# Altium integrated library TI Data Converters Digital to Analog Converter.IntLib: 1533 symbols (part 67 of 99)
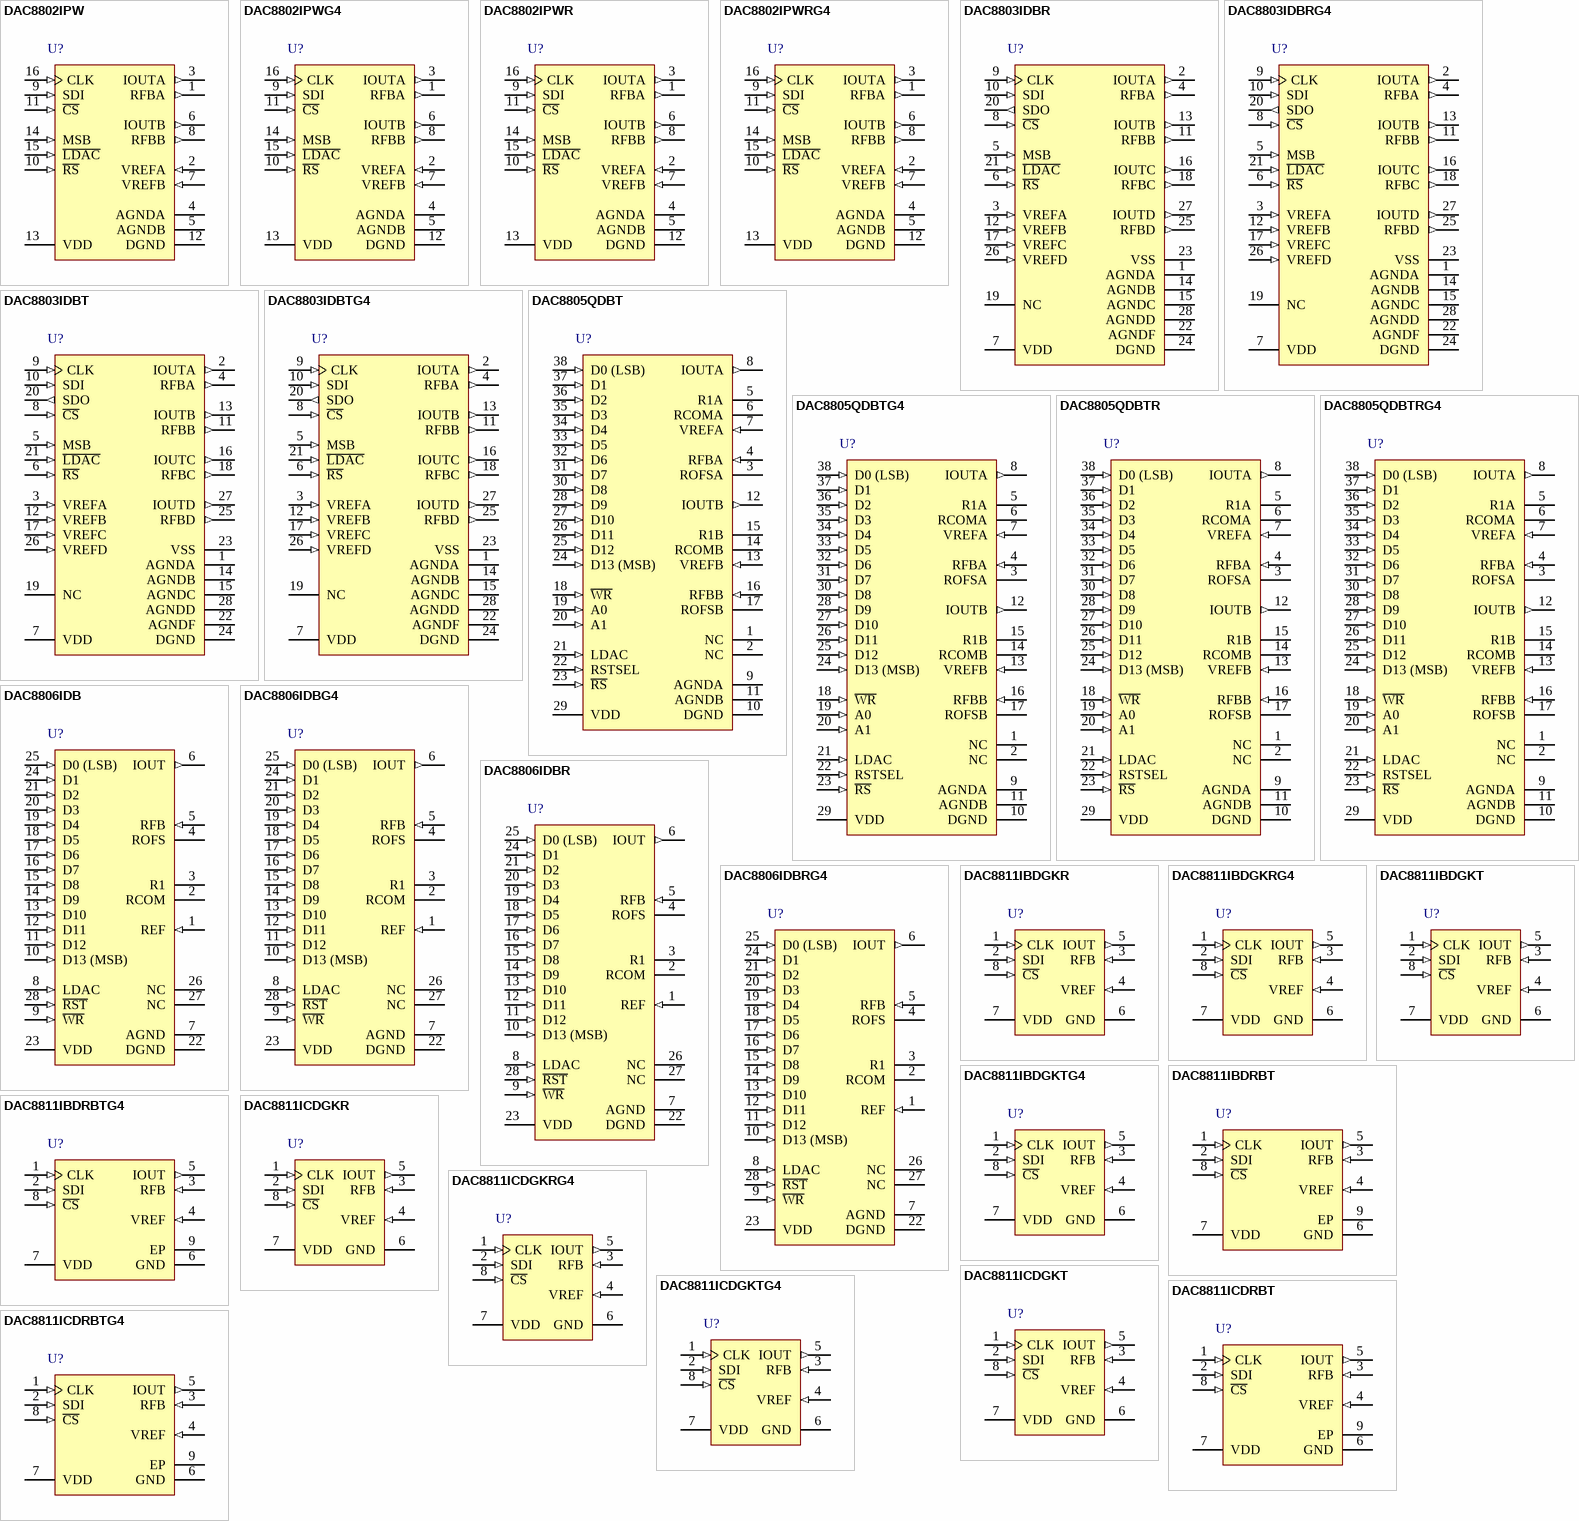
[diagram p139: symbols DAC8802IPW to DAC8811ICDRBTG4]

## DAC8803IDBRG4
designator U?
14-Bit, Quad Channel, Serial Interface, Multiplying DAC, -40 to 85 degC, 28-pin SOP (DB28), Green (RoHS & no Sb/Br); Manufacturer: Texas Instruments; PartNumber: DAC8803IDBRG4; DAC Channels: 4; DNL(Max)(+/-LSB): 1; Interface: Serial SPI; Resolution(Bits): 14; Settling Time(us): 0.5; SubFamily: Precision DAC (=<10MSPS); DatasheetVersion: SBAS340C; PackageVersion: 4040065/E, 12/2001; PackageReference: DB28; PackageDescription: 28-Pin Plastic Small Outline, Body 10.2 X 5.3 mm, Pitch 0.65 mm; Supplier 1: Digi-Key; Supplier Part Number 1: DAC8803IDBRG4-ND; Supplier 2: Mouser; Supplier Part Number 2: 595-DAC8803IDBRG4; Eco-Plan: Green (RoHS & no Sb/Br); INL(Max)(+/-LSB): 1; Mounting Technology: Surface Mount; Code_JEDEC: MO-150; ComponentLink1Description: Manufacturer URL; ComponentLink1URL: http://www.ti.com/; ComponentLink2Description: Datasheet; ComponentLink2URL: http://www.ti.com/general/docs/lit/getliterature.tsp?genericPartNumber=DAC8803&fileType=pdf; ComponentLink3Description: Package Specification; ComponentLink3URL: http://www.ti.com/lit/ml/msso002e/msso002e.pdf
footprint TI-DB28_N (SOP, 28-Leads, Body 10.2x5.3mm, Pitch 0.65mm, IPC Medium Density)
footprint TI-DB28_L (SOP, 28-Leads, Body 10.2x5.3mm, Pitch 0.65mm, IPC High Density)
footprint TI-DB28_M (SOP, 28-Leads, Body 10.2x5.3mm, Pitch 0.65mm, IPC Low Density)
pins: 1 AGNDA (power) "DAC A Analog ground.", 2 IOUTA (out) "DAC A Current output.", 3 VREFA (in) "DAC A Reference voltage input terminal. Establishes DAC full-scale output voltage. Can be tied to VDD.", 4 RFBA (out) "Establish voltage output for DAC A by connecting to external amplifier output.", 5 MSB (in) "MSB Bit set during a reset pulse (RS) or at system power-on if tied to ground or VDD.", 6 ~{RS} (in) "Reset pin, active low. Input register and DAC registers are set to all zeros or half-scale code (8000h) determined by the voltage on the MSB pin. Register data = 8000h when MSB = 1.", 7 VDD (power) "Positive power-supply input. Specified range of operation +2.7 V to +5.5 V.", 8 ~{CS} (in) "Chip select; active low input. Disables shift register loading when high. Transfers shift register data to input register when C\S\/L\D\A\C\ goes high. Does not affect LDAC operation.", 9 CLK (in) "Clock input; positive edge triggered clocks data into shift register", 10 SDI (in) "Serial data input; data loads directly into the shift register.", 11 RFBB (out) "Establish voltage output for DAC B by connecting to external amplifier output.", 12 VREFB (in) "DAC B Reference voltage input terminal. Establishes DAC full-scale output voltage. Can be tied to VDD.", 13 IOUTB (out) "DAC B Current output.", 14 AGNDB (power) "DAC B Analog ground.", 15 AGNDC (power) "DAC C Analog ground.", 16 IOUTC (out) "DAC C Current output.", 17 VREFC (in) "DAC C Reference voltage input terminal. Establishes DAC full-scale output voltage. Can be tied to VDD.", 18 RFBC (out) "Establish voltage output for DAC C by connecting to external amplifier output.", 19 NC "Not connected; leave floating.", 20 SDO (out) "Serial data output; input data loads directly into shift register. Data appears at SDO, 19 clock pulses after input at the SDI pin.", 21 ~{LDAC} (in) "Load DAC register strobe; level sensitive active low. Transfers all input register data to the DAC registers. Asynchronous active low input. See Table 1 for operation.", 22 AGNDF (power) "High current analog force ground.", 23 VSS "No internal connection.", 24 DGND (power) "Digital ground.", 25 RFBD (out) "Establish voltage output for DAC D by connecting to external amplifier output.", 26 VREFD (in) "DAC D Reference voltage input terminal. Establishes DAC full-scale output voltage. Can be tied to VDD.", 27 IOUTD (out) "DAC D Current output.", 28 AGNDD (power) "DAC D Analog ground."

## DAC8803IDBT
designator U?
14-Bit, Quad Channel, Serial Interface, Multiplying DAC, -40 to 85 degC, 28-pin SOP (DB28), Green (RoHS & no Sb/Br); Manufacturer: Texas Instruments; PartNumber: DAC8803IDBT; DAC Channels: 4; DNL(Max)(+/-LSB): 1; Interface: Serial SPI; Resolution(Bits): 14; Settling Time(us): 0.5; SubFamily: Precision DAC (=<10MSPS); DatasheetVersion: SBAS340C; PackageVersion: 4040065/E, 12/2001; PackageReference: DB28; PackageDescription: 28-Pin Plastic Small Outline, Body 10.2 X 5.3 mm, Pitch 0.65 mm; Supplier 1: Digi-Key; Supplier Part Number 1: 296-18685-2-ND; Supplier 2: Digi-Key; Supplier Part Number 2: 296-18685-1-ND; Supplier 3: Digi-Key; Supplier Part Number 3: 296-18685-6-ND; Supplier 4: Farnell; Supplier Part Number 4: 1310143; Supplier 5: Newark; Supplier Part Number 5: 60K9179; Supplier 6: Mouser; Supplier Part Number 6: 595-DAC8803IDBT; Eco-Plan: Green (RoHS & no Sb/Br); INL(Max)(+/-LSB): 1; Mounting Technology: Surface Mount; Code_JEDEC: MO-150; ComponentLink1Description: Manufacturer URL; ComponentLink1URL: http://www.ti.com/; ComponentLink2Description: Datasheet; ComponentLink2URL: http://www.ti.com/general/docs/lit/getliterature.tsp?genericPartNumber=DAC8803&fileType=pdf; ComponentLink3Description: Package Specification; ComponentLink3URL: http://www.ti.com/lit/ml/msso002e/msso002e.pdf
footprint TI-DB28_N (SOP, 28-Leads, Body 10.2x5.3mm, Pitch 0.65mm, IPC Medium Density)
footprint TI-DB28_L (SOP, 28-Leads, Body 10.2x5.3mm, Pitch 0.65mm, IPC High Density)
footprint TI-DB28_M (SOP, 28-Leads, Body 10.2x5.3mm, Pitch 0.65mm, IPC Low Density)
pins: 1 AGNDA (power) "DAC A Analog ground.", 2 IOUTA (out) "DAC A Current output.", 3 VREFA (in) "DAC A Reference voltage input terminal. Establishes DAC full-scale output voltage. Can be tied to VDD.", 4 RFBA (out) "Establish voltage output for DAC A by connecting to external amplifier output.", 5 MSB (in) "MSB Bit set during a reset pulse (RS) or at system power-on if tied to ground or VDD.", 6 ~{RS} (in) "Reset pin, active low. Input register and DAC registers are set to all zeros or half-scale code (8000h) determined by the voltage on the MSB pin. Register data = 8000h when MSB = 1.", 7 VDD (power) "Positive power-supply input. Specified range of operation +2.7 V to +5.5 V.", 8 ~{CS} (in) "Chip select; active low input. Disables shift register loading when high. Transfers shift register data to input register when C\S\/L\D\A\C\ goes high. Does not affect LDAC operation.", 9 CLK (in) "Clock input; positive edge triggered clocks data into shift register", 10 SDI (in) "Serial data input; data loads directly into the shift register.", 11 RFBB (out) "Establish voltage output for DAC B by connecting to external amplifier output.", 12 VREFB (in) "DAC B Reference voltage input terminal. Establishes DAC full-scale output voltage. Can be tied to VDD.", 13 IOUTB (out) "DAC B Current output.", 14 AGNDB (power) "DAC B Analog ground.", 15 AGNDC (power) "DAC C Analog ground.", 16 IOUTC (out) "DAC C Current output.", 17 VREFC (in) "DAC C Reference voltage input terminal. Establishes DAC full-scale output voltage. Can be tied to VDD.", 18 RFBC (out) "Establish voltage output for DAC C by connecting to external amplifier output.", 19 NC "Not connected; leave floating.", 20 SDO (out) "Serial data output; input data loads directly into shift register. Data appears at SDO, 19 clock pulses after input at the SDI pin.", 21 ~{LDAC} (in) "Load DAC register strobe; level sensitive active low. Transfers all input register data to the DAC registers. Asynchronous active low input. See Table 1 for operation.", 22 AGNDF (power) "High current analog force ground.", 23 VSS "No internal connection.", 24 DGND (power) "Digital ground.", 25 RFBD (out) "Establish voltage output for DAC D by connecting to external amplifier output.", 26 VREFD (in) "DAC D Reference voltage input terminal. Establishes DAC full-scale output voltage. Can be tied to VDD.", 27 IOUTD (out) "DAC D Current output.", 28 AGNDD (power) "DAC D Analog ground."

## DAC8803IDBTG4
designator U?
14-Bit, Quad Channel, Serial Interface, Multiplying DAC, -40 to 85 degC, 28-pin SOP (DB28), Green (RoHS & no Sb/Br); Manufacturer: Texas Instruments; PartNumber: DAC8803IDBTG4; DAC Channels: 4; DNL(Max)(+/-LSB): 1; Interface: Serial SPI; Resolution(Bits): 14; Settling Time(us): 0.5; SubFamily: Precision DAC (=<10MSPS); DatasheetVersion: SBAS340C; PackageVersion: 4040065/E, 12/2001; PackageReference: DB28; PackageDescription: 28-Pin Plastic Small Outline, Body 10.2 X 5.3 mm, Pitch 0.65 mm; Supplier 1: Digi-Key; Supplier Part Number 1: DAC8803IDBTG4-ND; Supplier 2: Mouser; Supplier Part Number 2: 595-DAC8803IDBTG4; Eco-Plan: Green (RoHS & no Sb/Br); INL(Max)(+/-LSB): 1; Mounting Technology: Surface Mount; Code_JEDEC: MO-150; ComponentLink1Description: Manufacturer URL; ComponentLink1URL: http://www.ti.com/; ComponentLink2Description: Datasheet; ComponentLink2URL: http://www.ti.com/general/docs/lit/getliterature.tsp?genericPartNumber=DAC8803&fileType=pdf; ComponentLink3Description: Package Specification; ComponentLink3URL: http://www.ti.com/lit/ml/msso002e/msso002e.pdf
footprint TI-DB28_N (SOP, 28-Leads, Body 10.2x5.3mm, Pitch 0.65mm, IPC Medium Density)
footprint TI-DB28_L (SOP, 28-Leads, Body 10.2x5.3mm, Pitch 0.65mm, IPC High Density)
footprint TI-DB28_M (SOP, 28-Leads, Body 10.2x5.3mm, Pitch 0.65mm, IPC Low Density)
pins: 1 AGNDA (power) "DAC A Analog ground.", 2 IOUTA (out) "DAC A Current output.", 3 VREFA (in) "DAC A Reference voltage input terminal. Establishes DAC full-scale output voltage. Can be tied to VDD.", 4 RFBA (out) "Establish voltage output for DAC A by connecting to external amplifier output.", 5 MSB (in) "MSB Bit set during a reset pulse (RS) or at system power-on if tied to ground or VDD.", 6 ~{RS} (in) "Reset pin, active low. Input register and DAC registers are set to all zeros or half-scale code (8000h) determined by the voltage on the MSB pin. Register data = 8000h when MSB = 1.", 7 VDD (power) "Positive power-supply input. Specified range of operation +2.7 V to +5.5 V.", 8 ~{CS} (in) "Chip select; active low input. Disables shift register loading when high. Transfers shift register data to input register when C\S\/L\D\A\C\ goes high. Does not affect LDAC operation.", 9 CLK (in) "Clock input; positive edge triggered clocks data into shift register", 10 SDI (in) "Serial data input; data loads directly into the shift register.", 11 RFBB (out) "Establish voltage output for DAC B by connecting to external amplifier output.", 12 VREFB (in) "DAC B Reference voltage input terminal. Establishes DAC full-scale output voltage. Can be tied to VDD.", 13 IOUTB (out) "DAC B Current output.", 14 AGNDB (power) "DAC B Analog ground.", 15 AGNDC (power) "DAC C Analog ground.", 16 IOUTC (out) "DAC C Current output.", 17 VREFC (in) "DAC C Reference voltage input terminal. Establishes DAC full-scale output voltage. Can be tied to VDD.", 18 RFBC (out) "Establish voltage output for DAC C by connecting to external amplifier output.", 19 NC "Not connected; leave floating.", 20 SDO (out) "Serial data output; input data loads directly into shift register. Data appears at SDO, 19 clock pulses after input at the SDI pin.", 21 ~{LDAC} (in) "Load DAC register strobe; level sensitive active low. Transfers all input register data to the DAC registers. Asynchronous active low input. See Table 1 for operation.", 22 AGNDF (power) "High current analog force ground.", 23 VSS "No internal connection.", 24 DGND (power) "Digital ground.", 25 RFBD (out) "Establish voltage output for DAC D by connecting to external amplifier output.", 26 VREFD (in) "DAC D Reference voltage input terminal. Establishes DAC full-scale output voltage. Can be tied to VDD.", 27 IOUTD (out) "DAC D Current output.", 28 AGNDD (power) "DAC D Analog ground."

## DAC8805QDBT
designator U?
14-Bit, Dual Channel, Parallel Interface, Multiplying DAC, -40 to 125 degC, 38-pin SOP (DBT38), Green (RoHS & no Sb/Br); Manufacturer: Texas Instruments; PartNumber: DAC8805QDBT; DAC Channels: 2; DNL(Max)(+/-LSB): 1; Resolution(Bits): 14; Settling Time(us): 0.5; SubFamily: Precision DAC (=<10MSPS); DatasheetVersion: SBAS391A; PackageVersion: 4073252-6/I, 03/2011; PackageReference: DBT38; PackageDescription: 38-Pin Plastic Small Outline, Body 9.7 x 4.4 mm, Pitch 0.5 mm; Supplier 1: Digi-Key; Supplier Part Number 1: 296-33265-5-ND; Supplier 2: Farnell; Supplier Part Number 2: 1390684; Supplier 3: Newark; Supplier Part Number 3: 45M7992; Supplier 4: Mouser; Supplier Part Number 4: 595-DAC8805QDBT; Eco-Plan: Green (RoHS & no Sb/Br); INL(Max)(+/-LSB): 1; Interface: Parallel; Mounting Technology: Surface Mount; Code_JEDEC: MO-153; ComponentLink1Description: Manufacturer URL; ComponentLink1URL: http://www.ti.com/; ComponentLink2Description: Datasheet; ComponentLink2URL: http://www.ti.com/general/docs/lit/getliterature.tsp?genericPartNumber=DAC8805&fileType=pdf; ComponentLink3Description: Package Specification; ComponentLink3URL: http://www.ti.com/litv/pdf/mpds368
footprint TI-DBT38_N (SOP, 38-Leads, Body 9.7x4.4mm, Pitch 0.5mm, IPC Medium Density)
footprint TI-DBT38_L (SOP, 38-Leads, Body 9.7x4.4mm, Pitch 0.5mm, IPC High Density)
footprint TI-DBT38_M (SOP, 38-Leads, Body 9.7x4.4mm, Pitch 0.5mm, IPC Low Density)
pins: 1 NC "No connection", 2 NC "No connection", 3 ROFSA "Bipolar Offset Resistor A. Accepts up to +/-18V. In 2-quadrant mode, ROFSA ties to RFBA. In 4-quadrant mode, ROFSA ties to R1A and the external reference.", 4 RFBA (in) "Internal Matching Feedback Resistor A. Connects to the external op amp for I-V conversion.", 5 R1A "4-Quadrant Resistor. In 2-quadrant mode, R1A shorts to the VREFA pin. In 4-quadrant mode, R1A ties to ROFSA and the reference input.", 6 RCOMA "Center Tap Point of the Two 4-Quadrant Resistors, R1A and R2A. In 2-quadrant mode, RCOMA shorts to the VREF pin. In 4-quadrant mode, RCOMA ties to the inverting node of the reference amplifier.", 7 VREFA (in) "DAC A Reference Input in 2-Quadrant Mode, R2 Terminal in 4-Quadrant Mode. In 2-quadrant mode, VREFA is the reference input with constant input resistance versus code. In 4-quadrant mode, VREFA is driven by the external (See Datasheet)", 8 IOUTA (out) "DAC A Current Output. Connects to the inverting terminal of external precision I-V op amp for voltage output.", 9 AGNDA (power) "DAC A Analog Ground.", 10 DGND (power) "Digital Ground.", 11 AGNDB (power) "DAC B Analog Ground.", 12 IOUTB (out) "DAC B Current Output. Connects to the inverting terminal of external precision I-V op amp for voltage output.", 13 VREFB (in) "DAC B Reference Input in 2-Quadrant Mode, R2 Terminal in 4-Quadrant Mode. In 2-quadrant mode, VREFB is the reference input with constant input resistance versus code. In 4-quadrant mode, VREFB is driven by the external (See Datasheet)", 14 RCOMB "Center Tap Point of the Two 4-Quadrant Resistors, R1B and R2B. In 2-quadrant mode, RCOMB shorts to the VREF pin. In 4-quadrant mode, RCOMB ties to the inverting node of the reference amplifier.", 15 R1B "4-Quadrant Resistor. In 2-quadrant mode, R1B shorts to the VREFB pin. In 4-quadrant mode, R1B ties to ROFSB and the reference input.", 16 RFBB (in) "Internal Matching Feedback Resistor B. Connects to external op amp for I-V conversion.", 17 ROFSB "Bipolar Offset Resistor B. Accepts up to +/-18V. In 2-quadrant mode, ROFSB ties to RFBB. In 4-quadrant mode, ROFSB ties to R1B and the external reference.", 18 ~{WR} (in) "Write Control Digital Input In, Active Low. W\R\ enables input registers. Signal level must be <= VDD + 0.3V.", 19 A0 (in) "Address 0. Signal level must be <= VDD + 0.3V.", 20 A1 (in) "Address 1. Signal level must be <= VDD + 0.3V.", 21 LDAC (in) "Digital Input Load DAC Control. Signal level must be <= VDD + 0.3V. See the Function of Control Inputs table for details.", 22 RSTSEL (in) "Power-On Reset State. RSTSEL = 0 corresponds to zero-scale reset. RSTSEL = 1 corresponds to mid-scale reset. The signal level must be <= VDD + 0.3V.", 23 ~{RS} (in) "Reset. Active low resets both input and DAC registers. Resets to zero-scale if RSTSEL= 0, and to mid-scale if RSTSEL = 1. Signal level must be equal to or less than VDD + 0.3 V.", 24 D13 (MSB) (in) "Digital Input Data Bits D0 to D13. Signal level must be <= VDD +0.3V. D13 is MSB.", 25 D12 (in) "Digital Input Data Bits D0 to D13. Signal level must be <= VDD +0.3V.", 26 D11 (in) "Digital Input Data Bits D0 to D13. Signal level must be <= VDD +0.3V.", 27 D10 (in) "Digital Input Data Bits D0 to D13. Signal level must be <= VDD +0.3V.", 28 D9 (in) "Digital Input Data Bits D0 to D13. Signal level must be <= VDD +0.3V.", 29 VDD (power) "Positive Power Supply Input. The specified range of operation is 2.7V to 5.5V.", 30 D8 (in) "Digital Input Data Bits D0 to D13. Signal level must be <= VDD +0.3V.", 31 D7 (in) "Digital Input Data Bits D0 to D13. Signal level must be <= VDD +0.3V.", 32 D6 (in) "Digital Input Data Bits D0 to D13. Signal level must be <= VDD +0.3V.", 33 D5 (in) "Digital Input Data Bits D0 to D13. Signal level must be <= VDD +0.3V.", 34 D4 (in) "Digital Input Data Bits D0 to D13. Signal level must be <= VDD +0.3V.", 35 D3 (in) "Digital Input Data Bits D0 to D13. Signal level must be <= VDD +0.3V.", 36 D2 (in) "Digital Input Data Bits D0 to D13. Signal level must be <= VDD +0.3V.", 37 D1 (in) "Digital Input Data Bits D0 to D13. Signal level must be <= VDD +0.3V.", 38 D0 (LSB) (in) "Digital Input Data Bits D0 to D13. Signal level must be <= VDD +0.3V."

## DAC8805QDBTG4
designator U?
14-Bit, Dual Channel, Parallel Interface, Multiplying DAC, -40 to 125 degC, 38-pin SOP (DBT38), Green (RoHS & no Sb/Br); Manufacturer: Texas Instruments; PartNumber: DAC8805QDBTG4; DAC Channels: 2; DNL(Max)(+/-LSB): 1; Power Consumption(Typ)(mW): 0.025; Resolution(Bits): 14; Settling Time(us): 0.5; SubFamily: Precision DAC (=<10MSPS); DatasheetVersion: SBAS391A; PackageVersion: 4073252-6/I, 03/2011; PackageReference: DBT38; PackageDescription: 38-Pin Plastic Small Outline, Body 9.7 x 4.4 mm, Pitch 0.5 mm; Supplier 1: Digi-Key; Supplier Part Number 1: DAC8805QDBTG4-ND; Supplier 2: Mouser; Supplier Part Number 2: 595-DAC8805QDBTG4; Eco-Plan: Green (RoHS & no Sb/Br); INL(Max)(+/-LSB): 1; Interface: Parallel; Mounting Technology: Surface Mount; Code_JEDEC: MO-153; ComponentLink1Description: Manufacturer URL; ComponentLink1URL: http://www.ti.com/; ComponentLink2Description: Datasheet; ComponentLink2URL: http://www.ti.com/general/docs/lit/getliterature.tsp?genericPartNumber=DAC8805&fileType=pdf; ComponentLink3Description: Package Specification; ComponentLink3URL: http://www.ti.com/litv/pdf/mpds368
footprint TI-DBT38_N (SOP, 38-Leads, Body 9.7x4.4mm, Pitch 0.5mm, IPC Medium Density)
footprint TI-DBT38_L (SOP, 38-Leads, Body 9.7x4.4mm, Pitch 0.5mm, IPC High Density)
footprint TI-DBT38_M (SOP, 38-Leads, Body 9.7x4.4mm, Pitch 0.5mm, IPC Low Density)
pins: 1 NC "No connection", 2 NC "No connection", 3 ROFSA "Bipolar Offset Resistor A. Accepts up to +/-18V. In 2-quadrant mode, ROFSA ties to RFBA. In 4-quadrant mode, ROFSA ties to R1A and the external reference.", 4 RFBA (in) "Internal Matching Feedback Resistor A. Connects to the external op amp for I-V conversion.", 5 R1A "4-Quadrant Resistor. In 2-quadrant mode, R1A shorts to the VREFA pin. In 4-quadrant mode, R1A ties to ROFSA and the reference input.", 6 RCOMA "Center Tap Point of the Two 4-Quadrant Resistors, R1A and R2A. In 2-quadrant mode, RCOMA shorts to the VREF pin. In 4-quadrant mode, RCOMA ties to the inverting node of the reference amplifier.", 7 VREFA (in) "DAC A Reference Input in 2-Quadrant Mode, R2 Terminal in 4-Quadrant Mode. In 2-quadrant mode, VREFA is the reference input with constant input resistance versus code. In 4-quadrant mode, VREFA is driven by the external (See Datasheet)", 8 IOUTA (out) "DAC A Current Output. Connects to the inverting terminal of external precision I-V op amp for voltage output.", 9 AGNDA (power) "DAC A Analog Ground.", 10 DGND (power) "Digital Ground.", 11 AGNDB (power) "DAC B Analog Ground.", 12 IOUTB (out) "DAC B Current Output. Connects to the inverting terminal of external precision I-V op amp for voltage output.", 13 VREFB (in) "DAC B Reference Input in 2-Quadrant Mode, R2 Terminal in 4-Quadrant Mode. In 2-quadrant mode, VREFB is the reference input with constant input resistance versus code. In 4-quadrant mode, VREFB is driven by the external (See Datasheet)", 14 RCOMB "Center Tap Point of the Two 4-Quadrant Resistors, R1B and R2B. In 2-quadrant mode, RCOMB shorts to the VREF pin. In 4-quadrant mode, RCOMB ties to the inverting node of the reference amplifier.", 15 R1B "4-Quadrant Resistor. In 2-quadrant mode, R1B shorts to the VREFB pin. In 4-quadrant mode, R1B ties to ROFSB and the reference input.", 16 RFBB (in) "Internal Matching Feedback Resistor B. Connects to external op amp for I-V conversion.", 17 ROFSB "Bipolar Offset Resistor B. Accepts up to +/-18V. In 2-quadrant mode, ROFSB ties to RFBB. In 4-quadrant mode, ROFSB ties to R1B and the external reference.", 18 ~{WR} (in) "Write Control Digital Input In, Active Low. W\R\ enables input registers. Signal level must be <= VDD + 0.3V.", 19 A0 (in) "Address 0. Signal level must be <= VDD + 0.3V.", 20 A1 (in) "Address 1. Signal level must be <= VDD + 0.3V.", 21 LDAC (in) "Digital Input Load DAC Control. Signal level must be <= VDD + 0.3V. See the Function of Control Inputs table for details.", 22 RSTSEL (in) "Power-On Reset State. RSTSEL = 0 corresponds to zero-scale reset. RSTSEL = 1 corresponds to mid-scale reset. The signal level must be <= VDD + 0.3V.", 23 ~{RS} (in) "Reset. Active low resets both input and DAC registers. Resets to zero-scale if RSTSEL= 0, and to mid-scale if RSTSEL = 1. Signal level must be equal to or less than VDD + 0.3 V.", 24 D13 (MSB) (in) "Digital Input Data Bits D0 to D13. Signal level must be <= VDD +0.3V. D13 is MSB.", 25 D12 (in) "Digital Input Data Bits D0 to D13. Signal level must be <= VDD +0.3V.", 26 D11 (in) "Digital Input Data Bits D0 to D13. Signal level must be <= VDD +0.3V.", 27 D10 (in) "Digital Input Data Bits D0 to D13. Signal level must be <= VDD +0.3V.", 28 D9 (in) "Digital Input Data Bits D0 to D13. Signal level must be <= VDD +0.3V.", 29 VDD (power) "Positive Power Supply Input. The specified range of operation is 2.7V to 5.5V.", 30 D8 (in) "Digital Input Data Bits D0 to D13. Signal level must be <= VDD +0.3V.", 31 D7 (in) "Digital Input Data Bits D0 to D13. Signal level must be <= VDD +0.3V.", 32 D6 (in) "Digital Input Data Bits D0 to D13. Signal level must be <= VDD +0.3V.", 33 D5 (in) "Digital Input Data Bits D0 to D13. Signal level must be <= VDD +0.3V.", 34 D4 (in) "Digital Input Data Bits D0 to D13. Signal level must be <= VDD +0.3V.", 35 D3 (in) "Digital Input Data Bits D0 to D13. Signal level must be <= VDD +0.3V.", 36 D2 (in) "Digital Input Data Bits D0 to D13. Signal level must be <= VDD +0.3V.", 37 D1 (in) "Digital Input Data Bits D0 to D13. Signal level must be <= VDD +0.3V.", 38 D0 (LSB) (in) "Digital Input Data Bits D0 to D13. Signal level must be <= VDD +0.3V."

## DAC8805QDBTR
designator U?
14-Bit, Dual Channel, Parallel Interface, Multiplying DAC, -40 to 125 degC, 38-pin SOP (DBT38), Green (RoHS & no Sb/Br); Manufacturer: Texas Instruments; PartNumber: DAC8805QDBTR; DAC Channels: 2; DNL(Max)(+/-LSB): 1; Power Consumption(Typ)(mW): 0.025; Resolution(Bits): 14; Settling Time(us): 0.5; SubFamily: Precision DAC (=<10MSPS); DatasheetVersion: SBAS391A; PackageVersion: 4073252-6/I, 03/2011; PackageReference: DBT38; PackageDescription: 38-Pin Plastic Small Outline, Body 9.7 x 4.4 mm, Pitch 0.5 mm; Supplier 1: Digi-Key; Supplier Part Number 1: 296-21734-2-ND; Supplier 2: Digi-Key; Supplier Part Number 2: 296-21734-1-ND; Supplier 3: Digi-Key; Supplier Part Number 3: 296-21734-6-ND; Supplier 4: Mouser; Supplier Part Number 4: 595-DAC8805QDBTR; Eco-Plan: Green (RoHS & no Sb/Br); INL(Max)(+/-LSB): 1; Interface: Parallel; Mounting Technology: Surface Mount; Code_JEDEC: MO-153; ComponentLink1Description: Manufacturer URL; ComponentLink1URL: http://www.ti.com/; ComponentLink2Description: Datasheet; ComponentLink2URL: http://www.ti.com/general/docs/lit/getliterature.tsp?genericPartNumber=DAC8805&fileType=pdf; ComponentLink3Description: Package Specification; ComponentLink3URL: http://www.ti.com/litv/pdf/mpds368
footprint TI-DBT38_N (SOP, 38-Leads, Body 9.7x4.4mm, Pitch 0.5mm, IPC Medium Density)
footprint TI-DBT38_L (SOP, 38-Leads, Body 9.7x4.4mm, Pitch 0.5mm, IPC High Density)
footprint TI-DBT38_M (SOP, 38-Leads, Body 9.7x4.4mm, Pitch 0.5mm, IPC Low Density)
pins: 1 NC "No connection", 2 NC "No connection", 3 ROFSA "Bipolar Offset Resistor A. Accepts up to +/-18V. In 2-quadrant mode, ROFSA ties to RFBA. In 4-quadrant mode, ROFSA ties to R1A and the external reference.", 4 RFBA (in) "Internal Matching Feedback Resistor A. Connects to the external op amp for I-V conversion.", 5 R1A "4-Quadrant Resistor. In 2-quadrant mode, R1A shorts to the VREFA pin. In 4-quadrant mode, R1A ties to ROFSA and the reference input.", 6 RCOMA "Center Tap Point of the Two 4-Quadrant Resistors, R1A and R2A. In 2-quadrant mode, RCOMA shorts to the VREF pin. In 4-quadrant mode, RCOMA ties to the inverting node of the reference amplifier.", 7 VREFA (in) "DAC A Reference Input in 2-Quadrant Mode, R2 Terminal in 4-Quadrant Mode. In 2-quadrant mode, VREFA is the reference input with constant input resistance versus code. In 4-quadrant mode, VREFA is driven by the external (See Datasheet)", 8 IOUTA (out) "DAC A Current Output. Connects to the inverting terminal of external precision I-V op amp for voltage output.", 9 AGNDA (power) "DAC A Analog Ground.", 10 DGND (power) "Digital Ground.", 11 AGNDB (power) "DAC B Analog Ground.", 12 IOUTB (out) "DAC B Current Output. Connects to the inverting terminal of external precision I-V op amp for voltage output.", 13 VREFB (in) "DAC B Reference Input in 2-Quadrant Mode, R2 Terminal in 4-Quadrant Mode. In 2-quadrant mode, VREFB is the reference input with constant input resistance versus code. In 4-quadrant mode, VREFB is driven by the external (See Datasheet)", 14 RCOMB "Center Tap Point of the Two 4-Quadrant Resistors, R1B and R2B. In 2-quadrant mode, RCOMB shorts to the VREF pin. In 4-quadrant mode, RCOMB ties to the inverting node of the reference amplifier.", 15 R1B "4-Quadrant Resistor. In 2-quadrant mode, R1B shorts to the VREFB pin. In 4-quadrant mode, R1B ties to ROFSB and the reference input.", 16 RFBB (in) "Internal Matching Feedback Resistor B. Connects to external op amp for I-V conversion.", 17 ROFSB "Bipolar Offset Resistor B. Accepts up to +/-18V. In 2-quadrant mode, ROFSB ties to RFBB. In 4-quadrant mode, ROFSB ties to R1B and the external reference.", 18 ~{WR} (in) "Write Control Digital Input In, Active Low. W\R\ enables input registers. Signal level must be <= VDD + 0.3V.", 19 A0 (in) "Address 0. Signal level must be <= VDD + 0.3V.", 20 A1 (in) "Address 1. Signal level must be <= VDD + 0.3V.", 21 LDAC (in) "Digital Input Load DAC Control. Signal level must be <= VDD + 0.3V. See the Function of Control Inputs table for details.", 22 RSTSEL (in) "Power-On Reset State. RSTSEL = 0 corresponds to zero-scale reset. RSTSEL = 1 corresponds to mid-scale reset. The signal level must be <= VDD + 0.3V.", 23 ~{RS} (in) "Reset. Active low resets both input and DAC registers. Resets to zero-scale if RSTSEL= 0, and to mid-scale if RSTSEL = 1. Signal level must be equal to or less than VDD + 0.3 V.", 24 D13 (MSB) (in) "Digital Input Data Bits D0 to D13. Signal level must be <= VDD +0.3V. D13 is MSB.", 25 D12 (in) "Digital Input Data Bits D0 to D13. Signal level must be <= VDD +0.3V.", 26 D11 (in) "Digital Input Data Bits D0 to D13. Signal level must be <= VDD +0.3V.", 27 D10 (in) "Digital Input Data Bits D0 to D13. Signal level must be <= VDD +0.3V.", 28 D9 (in) "Digital Input Data Bits D0 to D13. Signal level must be <= VDD +0.3V.", 29 VDD (power) "Positive Power Supply Input. The specified range of operation is 2.7V to 5.5V.", 30 D8 (in) "Digital Input Data Bits D0 to D13. Signal level must be <= VDD +0.3V.", 31 D7 (in) "Digital Input Data Bits D0 to D13. Signal level must be <= VDD +0.3V.", 32 D6 (in) "Digital Input Data Bits D0 to D13. Signal level must be <= VDD +0.3V.", 33 D5 (in) "Digital Input Data Bits D0 to D13. Signal level must be <= VDD +0.3V.", 34 D4 (in) "Digital Input Data Bits D0 to D13. Signal level must be <= VDD +0.3V.", 35 D3 (in) "Digital Input Data Bits D0 to D13. Signal level must be <= VDD +0.3V.", 36 D2 (in) "Digital Input Data Bits D0 to D13. Signal level must be <= VDD +0.3V.", 37 D1 (in) "Digital Input Data Bits D0 to D13. Signal level must be <= VDD +0.3V.", 38 D0 (LSB) (in) "Digital Input Data Bits D0 to D13. Signal level must be <= VDD +0.3V."

## DAC8805QDBTRG4
designator U?
14-Bit, Dual Channel, Parallel Interface, Multiplying DAC, -40 to 125 degC, 38-pin SOP (DBT38), Green (RoHS & no Sb/Br); Manufacturer: Texas Instruments; PartNumber: DAC8805QDBTRG4; DAC Channels: 2; DNL(Max)(+/-LSB): 1; Power Consumption(Typ)(mW): 0.025; Resolution(Bits): 14; Settling Time(us): 0.5; SubFamily: Precision DAC (=<10MSPS); DatasheetVersion: SBAS391A; PackageVersion: 4073252-6/I, 03/2011; PackageReference: DBT38; PackageDescription: 38-Pin Plastic Small Outline, Body 9.7 x 4.4 mm, Pitch 0.5 mm; Supplier 1: Digi-Key; Supplier Part Number 1: DAC8805QDBTRG4-ND; Supplier 2: Mouser; Supplier Part Number 2: 595-DAC8805QDBTRG4; Eco-Plan: Green (RoHS & no Sb/Br); INL(Max)(+/-LSB): 1; Interface: Parallel; Mounting Technology: Surface Mount; Code_JEDEC: MO-153; ComponentLink1Description: Manufacturer URL; ComponentLink1URL: http://www.ti.com/; ComponentLink2Description: Datasheet; ComponentLink2URL: http://www.ti.com/general/docs/lit/getliterature.tsp?genericPartNumber=DAC8805&fileType=pdf; ComponentLink3Description: Package Specification; ComponentLink3URL: http://www.ti.com/litv/pdf/mpds368
footprint TI-DBT38_N (SOP, 38-Leads, Body 9.7x4.4mm, Pitch 0.5mm, IPC Medium Density)
footprint TI-DBT38_L (SOP, 38-Leads, Body 9.7x4.4mm, Pitch 0.5mm, IPC High Density)
footprint TI-DBT38_M (SOP, 38-Leads, Body 9.7x4.4mm, Pitch 0.5mm, IPC Low Density)
pins: 1 NC "No connection", 2 NC "No connection", 3 ROFSA "Bipolar Offset Resistor A. Accepts up to +/-18V. In 2-quadrant mode, ROFSA ties to RFBA. In 4-quadrant mode, ROFSA ties to R1A and the external reference.", 4 RFBA (in) "Internal Matching Feedback Resistor A. Connects to the external op amp for I-V conversion.", 5 R1A "4-Quadrant Resistor. In 2-quadrant mode, R1A shorts to the VREFA pin. In 4-quadrant mode, R1A ties to ROFSA and the reference input.", 6 RCOMA "Center Tap Point of the Two 4-Quadrant Resistors, R1A and R2A. In 2-quadrant mode, RCOMA shorts to the VREF pin. In 4-quadrant mode, RCOMA ties to the inverting node of the reference amplifier.", 7 VREFA (in) "DAC A Reference Input in 2-Quadrant Mode, R2 Terminal in 4-Quadrant Mode. In 2-quadrant mode, VREFA is the reference input with constant input resistance versus code. In 4-quadrant mode, VREFA is driven by the external (See Datasheet)", 8 IOUTA (out) "DAC A Current Output. Connects to the inverting terminal of external precision I-V op amp for voltage output.", 9 AGNDA (power) "DAC A Analog Ground.", 10 DGND (power) "Digital Ground.", 11 AGNDB (power) "DAC B Analog Ground.", 12 IOUTB (out) "DAC B Current Output. Connects to the inverting terminal of external precision I-V op amp for voltage output.", 13 VREFB (in) "DAC B Reference Input in 2-Quadrant Mode, R2 Terminal in 4-Quadrant Mode. In 2-quadrant mode, VREFB is the reference input with constant input resistance versus code. In 4-quadrant mode, VREFB is driven by the external (See Datasheet)", 14 RCOMB "Center Tap Point of the Two 4-Quadrant Resistors, R1B and R2B. In 2-quadrant mode, RCOMB shorts to the VREF pin. In 4-quadrant mode, RCOMB ties to the inverting node of the reference amplifier.", 15 R1B "4-Quadrant Resistor. In 2-quadrant mode, R1B shorts to the VREFB pin. In 4-quadrant mode, R1B ties to ROFSB and the reference input.", 16 RFBB (in) "Internal Matching Feedback Resistor B. Connects to external op amp for I-V conversion.", 17 ROFSB "Bipolar Offset Resistor B. Accepts up to +/-18V. In 2-quadrant mode, ROFSB ties to RFBB. In 4-quadrant mode, ROFSB ties to R1B and the external reference.", 18 ~{WR} (in) "Write Control Digital Input In, Active Low. W\R\ enables input registers. Signal level must be <= VDD + 0.3V.", 19 A0 (in) "Address 0. Signal level must be <= VDD + 0.3V.", 20 A1 (in) "Address 1. Signal level must be <= VDD + 0.3V.", 21 LDAC (in) "Digital Input Load DAC Control. Signal level must be <= VDD + 0.3V. See the Function of Control Inputs table for details.", 22 RSTSEL (in) "Power-On Reset State. RSTSEL = 0 corresponds to zero-scale reset. RSTSEL = 1 corresponds to mid-scale reset. The signal level must be <= VDD + 0.3V.", 23 ~{RS} (in) "Reset. Active low resets both input and DAC registers. Resets to zero-scale if RSTSEL= 0, and to mid-scale if RSTSEL = 1. Signal level must be equal to or less than VDD + 0.3 V.", 24 D13 (MSB) (in) "Digital Input Data Bits D0 to D13. Signal level must be <= VDD +0.3V. D13 is MSB.", 25 D12 (in) "Digital Input Data Bits D0 to D13. Signal level must be <= VDD +0.3V.", 26 D11 (in) "Digital Input Data Bits D0 to D13. Signal level must be <= VDD +0.3V.", 27 D10 (in) "Digital Input Data Bits D0 to D13. Signal level must be <= VDD +0.3V.", 28 D9 (in) "Digital Input Data Bits D0 to D13. Signal level must be <= VDD +0.3V.", 29 VDD (power) "Positive Power Supply Input. The specified range of operation is 2.7V to 5.5V.", 30 D8 (in) "Digital Input Data Bits D0 to D13. Signal level must be <= VDD +0.3V.", 31 D7 (in) "Digital Input Data Bits D0 to D13. Signal level must be <= VDD +0.3V.", 32 D6 (in) "Digital Input Data Bits D0 to D13. Signal level must be <= VDD +0.3V.", 33 D5 (in) "Digital Input Data Bits D0 to D13. Signal level must be <= VDD +0.3V.", 34 D4 (in) "Digital Input Data Bits D0 to D13. Signal level must be <= VDD +0.3V.", 35 D3 (in) "Digital Input Data Bits D0 to D13. Signal level must be <= VDD +0.3V.", 36 D2 (in) "Digital Input Data Bits D0 to D13. Signal level must be <= VDD +0.3V.", 37 D1 (in) "Digital Input Data Bits D0 to D13. Signal level must be <= VDD +0.3V.", 38 D0 (LSB) (in) "Digital Input Data Bits D0 to D13. Signal level must be <= VDD +0.3V."

## DAC8806IDB
designator U?
14-Bit, Single Channel, Parallel Interface, Multiplying DAC, -40 to 85 degC, 28-pin SOP (DB28), Green (RoHS & no Sb/Br); Manufacturer: Texas Instruments; PartNumber: DAC8806IDB; DAC Channels: 1; Power Consumption(Typ)(mW): 0.025; Resolution(Bits): 14; Settling Time(us): 0.5; SubFamily: Precision DAC (=<10MSPS); DatasheetVersion: SBAS385B; PackageVersion: 4040065/E, 12/2001; PackageReference: DB28; PackageDescription: 28-Pin Plastic Small Outline, Body 10.2 X 5.3 mm, Pitch 0.65 mm; Supplier 1: Digi-Key; Supplier Part Number 1: 296-19722-5-ND; Supplier 2: Newark; Supplier Part Number 2: 88K3837; Supplier 3: Mouser; Supplier Part Number 3: 595-DAC8806IDB; DNL(Max)(+/-LSB): 1; Eco-Plan: Green (RoHS & no Sb/Br); INL(Max)(+/-LSB): 1; Interface: Parallel; Mounting Technology: Surface Mount; Code_JEDEC: MO-150; ComponentLink1Description: Manufacturer URL; ComponentLink1URL: http://www.ti.com/; ComponentLink2Description: Datasheet; ComponentLink2URL: http://www.ti.com/general/docs/lit/getliterature.tsp?genericPartNumber=DAC8806&fileType=pdf; ComponentLink3Description: Package Specification; ComponentLink3URL: http://www.ti.com/lit/ml/msso002e/msso002e.pdf
footprint TI-DB28_N (SOP, 28-Leads, Body 10.2x5.3mm, Pitch 0.65mm, IPC Medium Density)
footprint TI-DB28_L (SOP, 28-Leads, Body 10.2x5.3mm, Pitch 0.65mm, IPC High Density)
footprint TI-DB28_M (SOP, 28-Leads, Body 10.2x5.3mm, Pitch 0.65mm, IPC Low Density)
pins: 1 REF (in) "Reference input and 4-quadrant Resistor (R2).", 2 RCOM "Center tap of two 4-quadrant resistors(R1 and R2).", 3 R1 "4-quadrant resistor (R1).", 4 ROFS "Bipolar offset resistor", 5 RFB (in) "Internal matching feedback resistor", 6 IOUT (out) "DAC current output", 7 AGND (power) "Analog ground", 8 LDAC (in) "Digital input load DAC control. When LDAC is high, data is loaded from input register into a DAC register, updating the DAC output.", 9 ~{WR} (in) "Write control digital input. Active low. When W\R\ is taken to logic low, data is loaded from the digital input pins (D0-D13) into a14-bit input register.", 10 D13 (MSB) (in) "Digital input data bits. D13 is MSB.", 11 D12 (in) "Digital input data bits.", 12 D11 (in) "Digital input data bits.", 13 D10 (in) "Digital input data bits.", 14 D9 (in) "Digital input data bits.", 15 D8 (in) "Digital input data bits.", 16 D7 (in) "Digital input data bits.", 17 D6 (in) "Digital input data bits.", 18 D5 (in) "Digital input data bits.", 19 D4 (in) "Digital input data bits.", 20 D3 (in) "Digital input data bits.", 21 D2 (in) "Digital input data bits.", 22 DGND (power) "Digital ground", 23 VDD (power) "Positive power supply", 24 D1 (in) "Digital input data bits.", 25 D0 (LSB) (in) "Digital Input data bits. D0 is LSB.", 26 NC "No connection", 27 NC "No connection", 28 ~{RST} (in) "Reset. Active low. When R\S\T\ is taken to logic low, the DAC register is set to zero code, resulting in the DAC output being set to 0 V."

## DAC8806IDBG4
designator U?
14-Bit, Single Channel, Parallel Interface, Multiplying DAC, -40 to 85 degC, 28-pin SOP (DB28), Green (RoHS & no Sb/Br); Manufacturer: Texas Instruments; PartNumber: DAC8806IDBG4; DAC Channels: 1; Power Consumption(Typ)(mW): 0.025; Resolution(Bits): 14; Settling Time(us): 0.5; SubFamily: Precision DAC (=<10MSPS); DatasheetVersion: SBAS385B; PackageVersion: 4040065/E, 12/2001; PackageReference: DB28; PackageDescription: 28-Pin Plastic Small Outline, Body 10.2 X 5.3 mm, Pitch 0.65 mm; Supplier 1: Digi-Key; Supplier Part Number 1: DAC8806IDBG4-ND; Supplier 2: Mouser; Supplier Part Number 2: 595-DAC8806IDBG4; DNL(Max)(+/-LSB): 1; Eco-Plan: Green (RoHS & no Sb/Br); INL(Max)(+/-LSB): 1; Interface: Parallel; Mounting Technology: Surface Mount; Code_JEDEC: MO-150; ComponentLink1Description: Manufacturer URL; ComponentLink1URL: http://www.ti.com/; ComponentLink2Description: Datasheet; ComponentLink2URL: http://www.ti.com/general/docs/lit/getliterature.tsp?genericPartNumber=DAC8806&fileType=pdf; ComponentLink3Description: Package Specification; ComponentLink3URL: http://www.ti.com/lit/ml/msso002e/msso002e.pdf
footprint TI-DB28_N (SOP, 28-Leads, Body 10.2x5.3mm, Pitch 0.65mm, IPC Medium Density)
footprint TI-DB28_L (SOP, 28-Leads, Body 10.2x5.3mm, Pitch 0.65mm, IPC High Density)
footprint TI-DB28_M (SOP, 28-Leads, Body 10.2x5.3mm, Pitch 0.65mm, IPC Low Density)
pins: 1 REF (in) "Reference input and 4-quadrant Resistor (R2).", 2 RCOM "Center tap of two 4-quadrant resistors(R1 and R2).", 3 R1 "4-quadrant resistor (R1).", 4 ROFS "Bipolar offset resistor", 5 RFB (in) "Internal matching feedback resistor", 6 IOUT (out) "DAC current output", 7 AGND (power) "Analog ground", 8 LDAC (in) "Digital input load DAC control. When LDAC is high, data is loaded from input register into a DAC register, updating the DAC output.", 9 ~{WR} (in) "Write control digital input. Active low. When W\R\ is taken to logic low, data is loaded from the digital input pins (D0-D13) into a14-bit input register.", 10 D13 (MSB) (in) "Digital input data bits. D13 is MSB.", 11 D12 (in) "Digital input data bits.", 12 D11 (in) "Digital input data bits.", 13 D10 (in) "Digital input data bits.", 14 D9 (in) "Digital input data bits.", 15 D8 (in) "Digital input data bits.", 16 D7 (in) "Digital input data bits.", 17 D6 (in) "Digital input data bits.", 18 D5 (in) "Digital input data bits.", 19 D4 (in) "Digital input data bits.", 20 D3 (in) "Digital input data bits.", 21 D2 (in) "Digital input data bits.", 22 DGND (power) "Digital ground", 23 VDD (power) "Positive power supply", 24 D1 (in) "Digital input data bits.", 25 D0 (LSB) (in) "Digital Input data bits. D0 is LSB.", 26 NC "No connection", 27 NC "No connection", 28 ~{RST} (in) "Reset. Active low. When R\S\T\ is taken to logic low, the DAC register is set to zero code, resulting in the DAC output being set to 0 V."

## DAC8806IDBR
designator U?
14-Bit, Single Channel, Parallel Interface, Multiplying DAC, -40 to 85 degC, 28-pin SOP (DB28), Green (RoHS & no Sb/Br); Manufacturer: Texas Instruments; PartNumber: DAC8806IDBR; DAC Channels: 1; Power Consumption(Typ)(mW): 0.025; Resolution(Bits): 14; Settling Time(us): 0.5; SubFamily: Precision DAC (=<10MSPS); DatasheetVersion: SBAS385B; PackageVersion: 4040065/E, 12/2001; PackageReference: DB28; PackageDescription: 28-Pin Plastic Small Outline, Body 10.2 X 5.3 mm, Pitch 0.65 mm; Supplier 1: Digi-Key; Supplier Part Number 1: DAC8806IDBR-ND; Supplier 2: Mouser; Supplier Part Number 2: 595-DAC8806IDBR; DNL(Max)(+/-LSB): 1; Eco-Plan: Green (RoHS & no Sb/Br); INL(Max)(+/-LSB): 1; Interface: Parallel; Mounting Technology: Surface Mount; Code_JEDEC: MO-150; ComponentLink1Description: Manufacturer URL; ComponentLink1URL: http://www.ti.com/; ComponentLink2Description: Datasheet; ComponentLink2URL: http://www.ti.com/general/docs/lit/getliterature.tsp?genericPartNumber=DAC8806&fileType=pdf; ComponentLink3Description: Package Specification; ComponentLink3URL: http://www.ti.com/lit/ml/msso002e/msso002e.pdf
footprint TI-DB28_N (SOP, 28-Leads, Body 10.2x5.3mm, Pitch 0.65mm, IPC Medium Density)
footprint TI-DB28_L (SOP, 28-Leads, Body 10.2x5.3mm, Pitch 0.65mm, IPC High Density)
footprint TI-DB28_M (SOP, 28-Leads, Body 10.2x5.3mm, Pitch 0.65mm, IPC Low Density)
pins: 1 REF (in) "Reference input and 4-quadrant Resistor (R2).", 2 RCOM "Center tap of two 4-quadrant resistors(R1 and R2).", 3 R1 "4-quadrant resistor (R1).", 4 ROFS "Bipolar offset resistor", 5 RFB (in) "Internal matching feedback resistor", 6 IOUT (out) "DAC current output", 7 AGND (power) "Analog ground", 8 LDAC (in) "Digital input load DAC control. When LDAC is high, data is loaded from input register into a DAC register, updating the DAC output.", 9 ~{WR} (in) "Write control digital input. Active low. When W\R\ is taken to logic low, data is loaded from the digital input pins (D0-D13) into a14-bit input register.", 10 D13 (MSB) (in) "Digital input data bits. D13 is MSB.", 11 D12 (in) "Digital input data bits.", 12 D11 (in) "Digital input data bits.", 13 D10 (in) "Digital input data bits.", 14 D9 (in) "Digital input data bits.", 15 D8 (in) "Digital input data bits.", 16 D7 (in) "Digital input data bits.", 17 D6 (in) "Digital input data bits.", 18 D5 (in) "Digital input data bits.", 19 D4 (in) "Digital input data bits.", 20 D3 (in) "Digital input data bits.", 21 D2 (in) "Digital input data bits.", 22 DGND (power) "Digital ground", 23 VDD (power) "Positive power supply", 24 D1 (in) "Digital input data bits.", 25 D0 (LSB) (in) "Digital Input data bits. D0 is LSB.", 26 NC "No connection", 27 NC "No connection", 28 ~{RST} (in) "Reset. Active low. When R\S\T\ is taken to logic low, the DAC register is set to zero code, resulting in the DAC output being set to 0 V."

## DAC8806IDBRG4
designator U?
14-Bit, Single Channel, Parallel Interface, Multiplying DAC, -40 to 85 degC, 28-pin SOP (DB28), Green (RoHS & no Sb/Br); Manufacturer: Texas Instruments; PartNumber: DAC8806IDBRG4; DAC Channels: 1; Power Consumption(Typ)(mW): 0.025; Resolution(Bits): 14; Settling Time(us): 0.5; SubFamily: Precision DAC (=<10MSPS); DatasheetVersion: SBAS385B; PackageVersion: 4040065/E, 12/2001; PackageReference: DB28; PackageDescription: 28-Pin Plastic Small Outline, Body 10.2 X 5.3 mm, Pitch 0.65 mm; Supplier 1: Digi-Key; Supplier Part Number 1: DAC8806IDBRG4-ND; Supplier 2: Mouser; Supplier Part Number 2: 595-DAC8806IDBRG4; DNL(Max)(+/-LSB): 1; Eco-Plan: Green (RoHS & no Sb/Br); INL(Max)(+/-LSB): 1; Interface: Parallel; Mounting Technology: Surface Mount; Code_JEDEC: MO-150; ComponentLink1Description: Manufacturer URL; ComponentLink1URL: http://www.ti.com/; ComponentLink2Description: Datasheet; ComponentLink2URL: http://www.ti.com/general/docs/lit/getliterature.tsp?genericPartNumber=DAC8806&fileType=pdf; ComponentLink3Description: Package Specification; ComponentLink3URL: http://www.ti.com/lit/ml/msso002e/msso002e.pdf
footprint TI-DB28_N (SOP, 28-Leads, Body 10.2x5.3mm, Pitch 0.65mm, IPC Medium Density)
footprint TI-DB28_L (SOP, 28-Leads, Body 10.2x5.3mm, Pitch 0.65mm, IPC High Density)
footprint TI-DB28_M (SOP, 28-Leads, Body 10.2x5.3mm, Pitch 0.65mm, IPC Low Density)
pins: 1 REF (in) "Reference input and 4-quadrant Resistor (R2).", 2 RCOM "Center tap of two 4-quadrant resistors(R1 and R2).", 3 R1 "4-quadrant resistor (R1).", 4 ROFS "Bipolar offset resistor", 5 RFB (in) "Internal matching feedback resistor", 6 IOUT (out) "DAC current output", 7 AGND (power) "Analog ground", 8 LDAC (in) "Digital input load DAC control. When LDAC is high, data is loaded from input register into a DAC register, updating the DAC output.", 9 ~{WR} (in) "Write control digital input. Active low. When W\R\ is taken to logic low, data is loaded from the digital input pins (D0-D13) into a14-bit input register.", 10 D13 (MSB) (in) "Digital input data bits. D13 is MSB.", 11 D12 (in) "Digital input data bits.", 12 D11 (in) "Digital input data bits.", 13 D10 (in) "Digital input data bits.", 14 D9 (in) "Digital input data bits.", 15 D8 (in) "Digital input data bits.", 16 D7 (in) "Digital input data bits.", 17 D6 (in) "Digital input data bits.", 18 D5 (in) "Digital input data bits.", 19 D4 (in) "Digital input data bits.", 20 D3 (in) "Digital input data bits.", 21 D2 (in) "Digital input data bits.", 22 DGND (power) "Digital ground", 23 VDD (power) "Positive power supply", 24 D1 (in) "Digital input data bits.", 25 D0 (LSB) (in) "Digital Input data bits. D0 is LSB.", 26 NC "No connection", 27 NC "No connection", 28 ~{RST} (in) "Reset. Active low. When R\S\T\ is taken to logic low, the DAC register is set to zero code, resulting in the DAC output being set to 0 V."

## DAC8811IBDGKR
designator U?
16-Bit, Serial Input Multiplying Digital to Analog Converter, -40 to 85 degC, 8-pin SOP (DGK8), Green (RoHS & no Sb/Br); Manufacturer: Texas Instruments; PartNumber: DAC8811IBDGKR; DAC Channels: 1; INL(Max)(+/-LSB): 2; Interface: Serial SPI; Power Consumption(Typ)(mW): 0.025; Resolution(Bits): 16; Settling Time(us): 0.5; SubFamily: Precision DAC (=<10MSPS); DatasheetVersion: SLAS411B; PackageVersion: 4073329/E, 05/2006; PackageReference: DGK8; PackageDescription: 8-Pin Thin Small Outline, Body 3 x 3 mm, Pitch 0.65 mm; Supplier 1: Digi-Key; Supplier Part Number 1: DAC8811IBDGKR-ND; Supplier 2: Newark; Supplier Part Number 2: 73J8227; Supplier 3: Mouser; Supplier Part Number 3: 595-DAC8811IBDGKR; DNL(Max)(+/-LSB): 1; Eco-Plan: Green (RoHS & no Sb/Br); Mounting Technology: Surface Mount; Code_JEDEC: MO-187; ComponentLink1Description: Manufacturer URL; ComponentLink1URL: http://www.ti.com/; ComponentLink2Description: Datasheet; ComponentLink2URL: http://www.ti.com/general/docs/lit/getliterature.tsp?genericPartNumber=DAC8811&fileType=pdf; ComponentLink3Description: Package Specification; ComponentLink3URL: http://www.ti.com/litv/pdf/mpds028d
footprint TI-DGK8_N (SOP, 8-Leads, Body 3x3mm, Pitch 0.65mm, IPC Medium Density)
footprint TI-DGK8_L (SOP, 8-Leads, Body 3x3mm, Pitch 0.65mm, IPC High Density)
footprint TI-DGK8_M (SOP, 8-Leads, Body 3x3mm, Pitch 0.65mm, IPC Low Density)
pins: 1 CLK (in) "Clock input, positive edge triggered clocks data into shift register", 2 SDI (in) "Serial register input, data loads directly into the shift register MSB first. Extra leading bits are ignored", 3 RFB (in) "Internal matching feedback resistor. Connect to external op amp output.", 4 VREF (in) "DAC reference input pin. Establishes DAC full-scale voltage. Constant input resistance versus code", 5 IOUT (out) "DAC current output. Connects to inverting terminal of external precision I to V op amp.", 6 GND (power) "Analog and digital ground", 7 VDD (power) "Posiitve power supply input. Specified range of operation 2.7 V to 5.5 V", 8 ~{CS} (in) "Chip select, active low digital input. Transfers shift register data to DAC register on rising edge."